# EAGLE library part 6E2 (library FHD-RETRO)
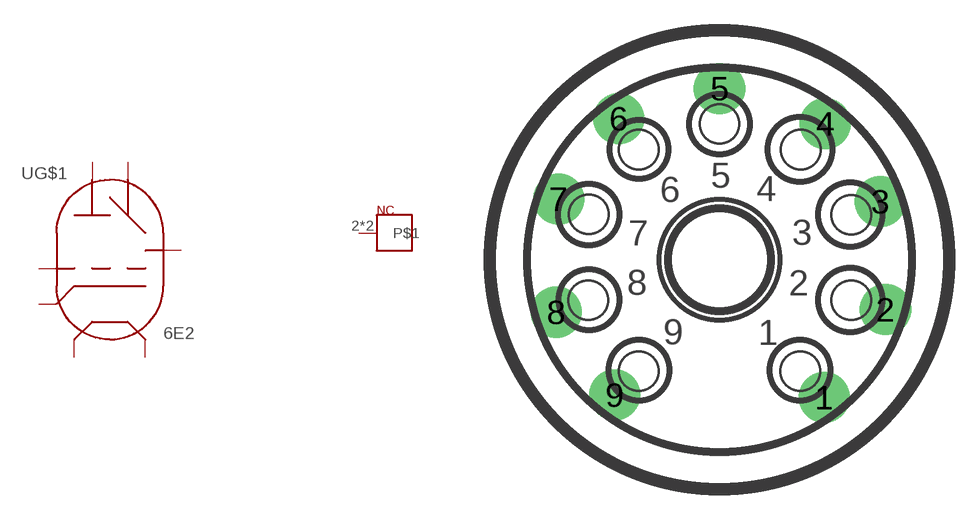
[diagram p0: symbol with the pads of NOVAL; footprint NOVAL]

Designator prefix -; gates G$1=6E2 G$2=NC

## 6E2  [NOVAL]
1  G$1:P$1  in
2  G$2:P$1  nc
3  G$1:P$2  in
4  G$1:P$3  out
5  G$1:P$4  in
6  G$1:P$6  in
7  G$1:P$5  in
8  G$2:P$1  nc
9  G$1:P$7  in

## Footprint NOVAL (pad centres in mm)
drill 1.422 pad 2.54: 1 5.207,-6.858; 2 8.254,-2.484; 3 8.004,2.893; 4 5.258,6.77; 5 0,8.524; 6 -5.004,7.024; 7 -8.004,3.02; 8 -8.127,-2.611; 9 -5.207,-6.731